# EAGLE library part 6270XX21721_62703021721 (library con-wurth)
WR-BHD 1.27 mm Male Angled Box Header KIND PROPERTIES: Pitch 1.27 mm Gender:Male MATERIAL PROPERTIES: Insulator Material Nylon 9T Insulator Flammability Rating UL94 V-0 Insulator Color Black Contact Material Brass Contact Plating Gold over Nickel GENERAL INFORMATION: Operating Temperature -40 up to +105 °C Working Voltage 50 V (AC) Withstanding Voltage 500 V (AC) Contact Resistance 20 mΩ RISO 1000 MΩ CERTIFICATION: UL Approval E323964 <https://www.we-online.com/catalog/media/o375402v209%20Family_WR-BHD_6270xx21721.jpg> Details see: https://www.we-online.com/catalog/en/WR_BHD_1_27_MM_MALE_ANGLED_BOX_HEADER Created by Ella Wu 2021-08-24 2021 (C) Würth Elektronik
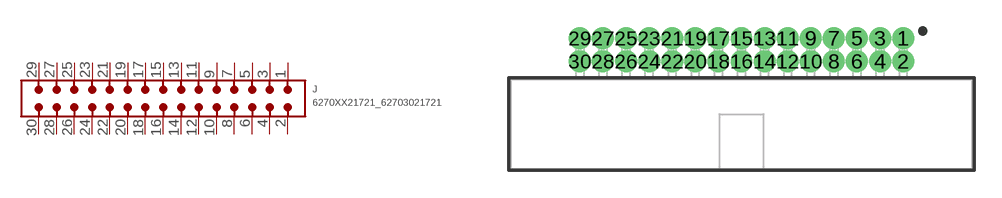
[diagram p4: symbol with the pads of 62703021721; footprint 62703021721]

Designator prefix J

## 6270XX21721_62703021721 (CONTACT-RESISTANCE: 20mOhm; DATASHEET-URL: https://www.we-online.com/redexpert/spec/62703021721?ae; GENDER: Male; IR: 1A; LENGTH: 25.4mm; MOUNT: THT; PART-NUMBER: 62703021721; PINS: 30; PITCH: 1.27mm; TYPE: Angled; VALUE: 62703021721; WORKING-VOLTAGE: 50V(AC))  [62703021721]
1  1  pas
2  2  pas
3  3  pas
4  4  pas
5  5  pas
6  6  pas
7  7  pas
8  8  pas
9  9  pas
10  10  pas
11  11  pas
12  12  pas
13  13  pas
14  14  pas
15  15  pas
16  16  pas
17  17  pas
18  18  pas
19  19  pas
20  20  pas
21  21  pas
22  22  pas
23  23  pas
24  24  pas
25  25  pas
26  26  pas
27  27  pas
28  28  pas
29  29  pas
30  30  pas

## Footprint 62703021721 (pad centres in mm)
WR-BHD 1,27mm Male THT Box Header Right angle, 30Pins
drill 0.7 pad 1.05: 1 8.89,4.72; 2 8.89,3.45; 3 7.62,4.72; 4 7.62,3.45; 5 6.35,4.72; 6 6.35,3.45; 7 5.08,4.72; 8 5.08,3.45; 9 3.81,4.72; 10 3.81,3.45; 11 2.54,4.72; 12 2.54,3.45; 13 1.27,4.72; 14 1.27,3.45; 15 0,4.72; 16 0,3.45; 17 -1.27,4.72; 18 -1.27,3.45; 19 -2.54,4.72; 20 -2.54,3.45; 21 -3.81,4.72; 22 -3.81,3.45; 23 -5.08,4.72; 24 -5.08,3.45; 25 -6.35,4.72; 26 -6.35,3.45; 27 -7.62,4.72; 28 -7.62,3.45; 29 -8.89,4.72; 30 -8.89,3.45